# EAGLE library part LTC3862-1 (library PowerProducts)
Multi-Phase Current Mode Step-Up DC/DC Controller
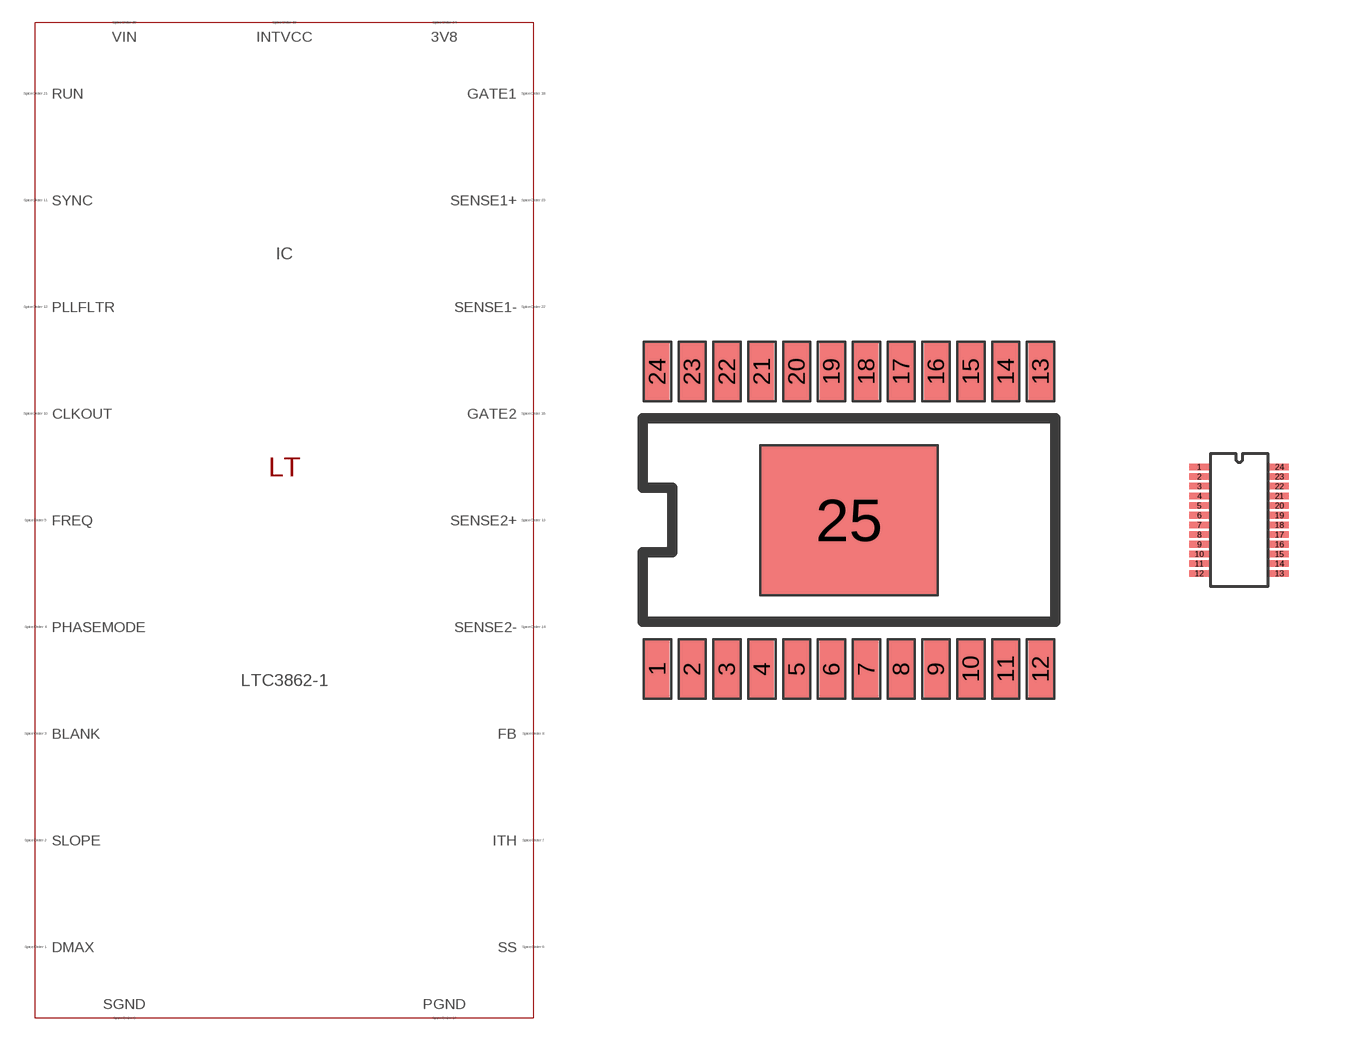
[diagram p380: symbol with the pads of TSSOP24AA(FE); footprints TSSOP24AA(FE), SSOP24(GN)]

Designator prefix IC

## LTC3862-1 (SPICEMODEL: LTC3862-1.sub; SPICEPREFIX: X; VALUE2: LTC3862-1)  [TSSOP24AA(FE)]
1  DMAX  pas
2  SLOPE  pas
3  BLANK  pas
4  PHASEMODE  pas
5  FREQ  pas
6  SS  pas
7  ITH  pas
8  FB  pas
9  SGND  pas
10  CLKOUT  pas
11  SYNC  pas
12  PLLFLTR  pas
13  SENSE2+  pas
14  SENSE2-  pas
16  GATE2  pas
17  PGND  pas
18  GATE1  pas
19  INTVCC  pas
20  VIN  pas
21  RUN  pas
22  SENSE1-  pas
23  SENSE1+  pas
24  3V8  pas
25  PGND  pas

## LTC3862-1GN (SPICEMODEL: LTC3862-1.sub; SPICEPREFIX: X; VALUE2: LTC3862-1)  [SSOP24(GN)]
1  DMAX  pas
2  SLOPE  pas
3  BLANK  pas
4  PHASEMODE  pas
5  FREQ  pas
6  SS  pas
7  ITH  pas
8  FB  pas
9  SGND  pas
10  CLKOUT  pas
11  SYNC  pas
12  PLLFLTR  pas
13  SENSE2+  pas
14  SENSE2-  pas
16  GATE2  pas
17  PGND  pas
18  GATE1  pas
19  INTVCC  pas
20  VIN  pas
21  RUN  pas
22  SENSE1-  pas
23  SENSE1+  pas
24  3V8  pas

## LTC3862-1UH (SPICEMODEL: LTC3862-1.sub; SPICEPREFIX: X; VALUE2: LTC3862-1)  [QFN24(UH)]
1  BLANK  pas
2  PHASEMODE  pas
3  FREQ  pas
4  SS  pas
5  ITH  pas
6  FB  pas
7  SGND  pas
8  CLKOUT  pas
9  SYNC  pas
10  PLLFLTR  pas
11  SENSE2+  pas
12  SENSE2-  pas
14  GATE2  pas
15  PGND  pas
16  GATE1  pas
17  INTVCC  pas
18  VIN  pas
19  RUN  pas
20  SENSE1-  pas
21  SENSE1+  pas
22  3V8  pas
23  DMAX  pas
24  SLOPE  pas
25  PGND  pas

## Footprint TSSOP24AA(FE) (pad centres in mm)
Package generated from: TSSOP24AA(FE).asc (!PADS-POWERPCB-V9.3-BASIC! DESIGN DATABASE ASCII FILE 1.0) with :import-pads-powerpcb-v5.ulp Version 1.0.1 at 04.10.2012 14:11:40
smd 0.675 x 1.575: 1 -5.362,-4.162; 2 -4.388,-4.162; 3 -3.413,-4.162; 4 -2.438,-4.162; 5 -1.462,-4.162; 6 -0.487,-4.162; 7 0.487,-4.162; 8 1.462,-4.162; 9 2.438,-4.162; 10 3.413,-4.162; 11 4.388,-4.162; 12 5.362,-4.162; 13 5.362,4.162; 14 4.388,4.162; 15 3.413,4.162; 16 2.438,4.162; 17 1.462,4.162; 18 0.487,4.162; 19 -0.487,4.162; 20 -1.462,4.162; 21 -2.438,4.162; 22 -3.413,4.162; 23 -4.388,4.162; 24 -5.362,4.162
smd 4.875 x 4.11: 25 0,0

## Footprint SSOP24(GN) (pad centres in mm)
Package generated from: SSOP24(GN).asc (!PADS-POWERPCB-V5.0-BASIC! DESIGN DATABASE ASCII FILE 1.0) with :import-pads-powerpcb-v5.ulp Version 1.0.1 at 04.10.2012 14:11:39
smd 0.484 x 0.165: 1 -1.002,1.331; 2 -1.002,1.089; 3 -1.002,0.847; 4 -1.002,0.605; 5 -1.002,0.363; 6 -1.002,0.121; 7 -1.002,-0.121; 8 -1.002,-0.363; 9 -1.002,-0.605; 10 -1.002,-0.847; 11 -1.002,-1.089; 12 -1.002,-1.331; 13 1.002,-1.331; 14 1.002,-1.089; 15 1.002,-0.847; 16 1.002,-0.605; 17 1.002,-0.363; 18 1.002,-0.121; 19 1.002,0.121; 20 1.002,0.363; 21 1.002,0.605; 22 1.002,0.847; 23 1.002,1.089; 24 1.002,1.331

## Footprint QFN24(UH) (pad centres in mm)
Package generated from: QFN24(UH).asc (!PADS-POWERPCB-V5.0-BASIC! DESIGN DATABASE ASCII FILE 1.0) with :import-pads-powerpcb-v5.ulp Version 1.0.1 at 04.10.2012 14:11:24
smd 1.125 x 0.45: 1 -3.487,2.438; 2 -3.487,1.462; 3 -3.487,0.487; 4 -3.487,-0.487; 5 -3.487,-1.462; 6 -3.487,-2.438; 13 3.487,-2.438; 14 3.487,-1.462; 15 3.487,-0.487; 16 3.487,0.487; 17 3.487,1.462; 18 3.487,2.438
smd 0.45 x 1.125: 7 -2.438,-3.487; 8 -1.462,-3.487; 9 -0.487,-3.487; 10 0.487,-3.487; 11 1.462,-3.487; 12 2.438,-3.487; 19 2.438,3.487; 20 1.462,3.487; 21 0.487,3.487; 22 -0.487,3.487; 23 -1.462,3.487; 24 -2.438,3.487
smd 0 x 4.8: 25 0,0